# Altium footprint library LFCSP16-SPE-ADG774ABRQ.PcbLib: 1 footprints
Each footprint in its own frame and in the unit in brackets; x right, y up, seen from the top. Pads: shape width x height; smd on the part's side, far side on the other; paste and mask are expansions set on the pad; w line width, h text height; cw(c..) or ccw(c..) is an arc to the next point about the centre after c.
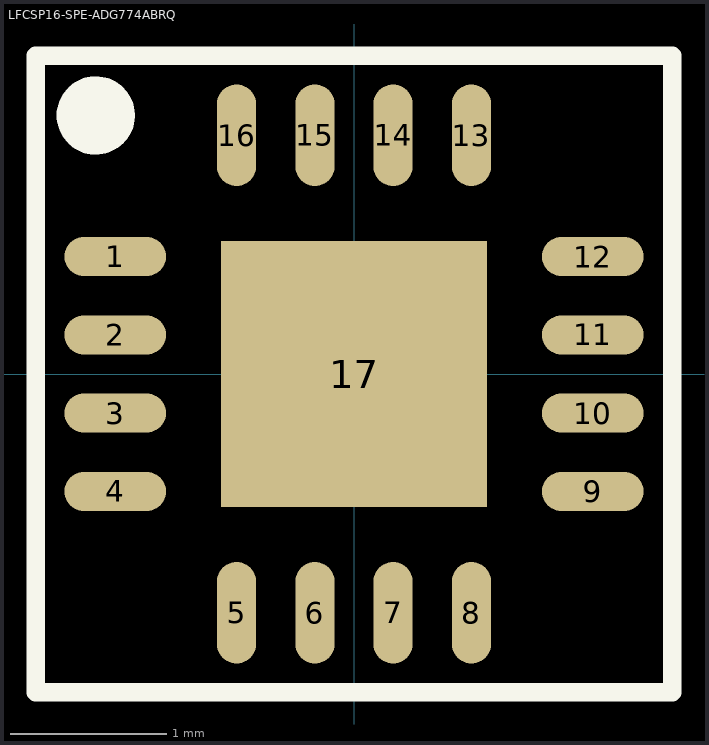
[diagram p0: the footprint, top view; thin cyan lines are the x and y axes]

## LFCSP16-SPE-ADG774ABRQ [mm]
height 0.9
pads (17):
  oval 0.65x0.25 smd: 1(-1.525,0.75) 2(-1.525,0.25) 3(-1.525,-0.25) 4(-1.525,-0.75) 9(1.525,-0.75) 10(1.525,-0.25) 11(1.525,0.25) 12(1.525,0.75)
  oval 0.25x0.65 smd: 5(-0.75,-1.525) 6(-0.25,-1.525) 7(0.25,-1.525) 8(0.75,-1.525) 13(0.75,1.525) 14(0.25,1.525) 15(-0.25,1.525) 16(-0.75,1.525)
  rect 1.7x1.7 smd: 17(0,0)
Top Overlay:
  circle w0.25: c-1.649,1.651 r0.125
  lines w0.12: -2.032,-2.032 -2.032,2.032 2.032,2.032 2.032,-2.032 -2.032,-2.032
3D body: height -0.42, standoff -1.42, extent -1.496,-1.496 1.524,1.524